# Altium schematic symbol library SCH - CONNECTORS - MOLEX 9-2304372-1.Schlib: 1 symbol
Pins are listed as number, name and electrical type; pins without a type are passive.

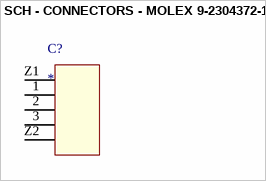
[diagram p0: symbol SCH - CONNECTORS - MOLEX 9-2304372-1]

## SCH - CONNECTORS - MOLEX 9-2304372-1
designator C?
ComponentLink1 Description: Manufacturer; ComponentLink2 Description: Datasheet; ComponentLink1URL: http://www.molex.com; ComponentLink2URL: http://www.molex.com/molex/products/datasheet.jsp?part=active/0428203214_PCB_HEADERS.xml
footprint 42820-3214 (10.00mm Pitch Mini-Fit Sr.™ Header, Single Row, Right Angle, 1.57mm PCB Thickness, Silver (Ag) Plating, 3 Circuits)
pins: 1, 2, 3, Z1, Z2